# Altium footprint library RF Connector.PcbLib: 13 footprints
Each footprint in its own frame and in the unit in brackets; x right, y up, seen from the top. Pads: shape width x height; smd on the part's side, far side on the other; paste and mask are expansions set on the pad; w line width, h text height; cw(c..) or ccw(c..) is an arc to the next point about the centre after c.
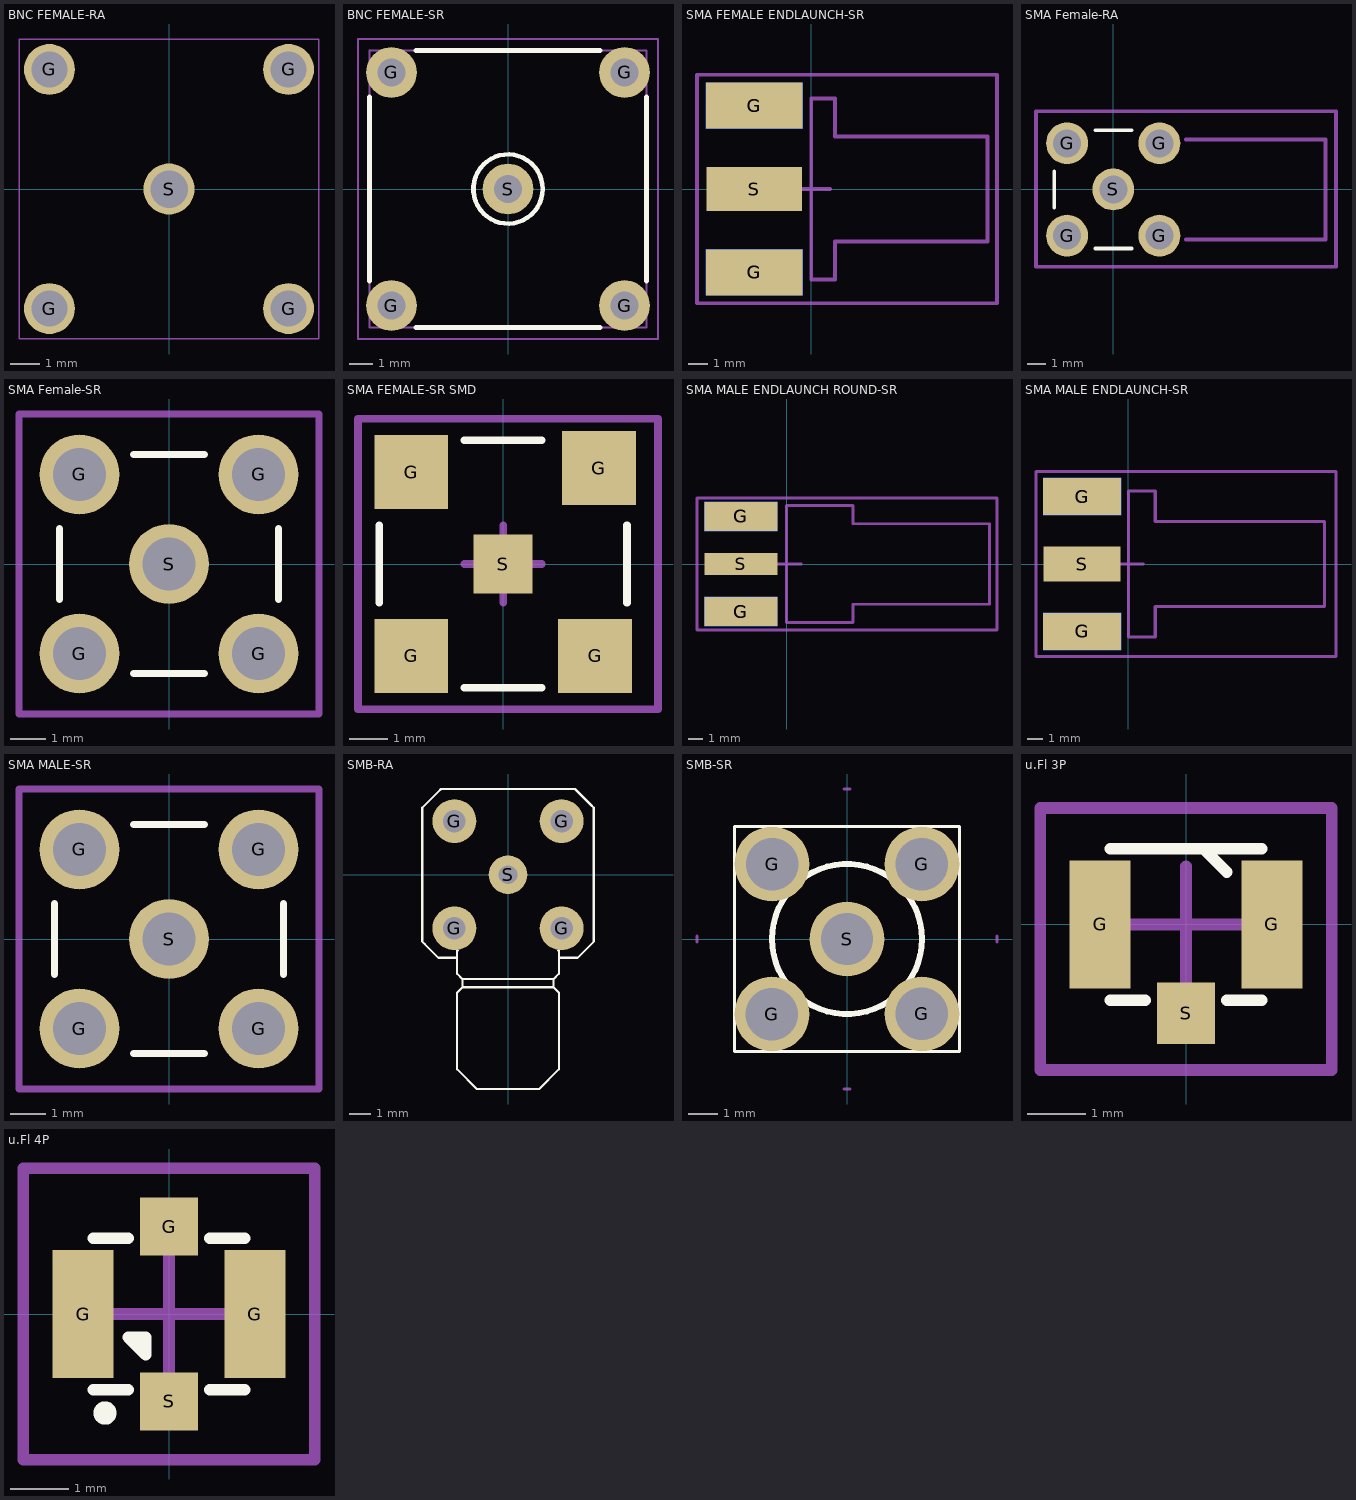
[diagram p0: the footprints below, top view; thin cyan lines are the x and y axes]

## BNC FEMALE-RA [mil]
pads (5):
  round 68 hole 48: G(-159.45,-159.45) G(-159.45,159.45) G(159.45,-159.45) G(159.45,159.45)
  round 68 hole 50: S(0,0)
Mechanical 14:
  lines w2: -200,-200 200,-200 200,200 -200,200 -200,-200
3D body "User Library-BNC84CT-9000.STEP": height 600.39, standoff -177.17, extent -216.53,-216.53 1043.31,216.54

## BNC FEMALE-SR [mm]
pads (5):
  round 2.2 hole 1.2: G(-5.05,-5.05) G(-5.05,5.05) G(5.05,-5.05) G(5.05,5.05) S(0,0)
Top Overlay:
  circle w0.2: c0,0 r1.5
  lines w0.2: -6,-4 -6,4 ; -4,-6 4,-6 ; -4,6 4,6 ; 6,-4 6,4
Mechanical 1:
  circle w0.1: c0,0 r1.5
  lines w0.1: -6,6 6,6 6,6 6,-6 -6,-6 -6,6 ; -6,6 -6,6
Mechanical 15:
  lines w0.1: -1,0 1,0 ; 0,-1 0,1 ; -6.5,-6.5 -6.5,6.5 6.5,6.5 6.5,-6.5 -6.5,-6.5
3D body "9962.stp": height 13, standoff -4.5, extent -6,-6 6,6

## SMA FEMALE ENDLAUNCH-SR [mm] "MOLEX SD-73251-115"
pads (5):
  rect 5.08x2.415 smd: G(-3,-4.383) G(-3,4.383)
  rect 5.08x2.415 smd far side: G(-3,-4.383) G(-3,4.383)
  rect 5x2.29 smd: S(-3,0)
Mechanical 1:
  lines w0.2: 0,-4.75 1.25,-4.75 1.25,-2.75 9.25,-2.75 9.25,2.75 1.25,2.75 1.25,4.75 0,4.75 0,-4.75
Mechanical 15:
  lines w0.2: -1,0 1,0 ; 0,-1 0,1 ; -6,-6 9.75,-6 9.75,6 -6,6 -6,-6
3D body "MOLEX SD-73251-115.stp": height 4.36, standoff -3.56, extent -5.137,-4.75 9.137,4.775

## SMA Female-RA [mm] "MOLEX SD-73100-0114"
pads (5):
  round 2.302 hole 1.54: G(-2.54,-2.54) G(2.54,-2.54)
  round 2.304 hole 1.54: G(-2.54,2.54) G(2.54,2.54) S(0,0)
Top Overlay:
  lines w0.2: -3.25,-1 -3.25,1 ; -1,-3.25 1,-3.25 ; -1,3.25 1,3.25
Mechanical 1:
  lines w0.2: 4,-2.75 11.675,-2.75 11.675,2.75 4,2.75
Mechanical 15:
  lines w0.2: -1,0 1,0 ; 0,-1 0,1 ; -4.25,-4.25 12.25,-4.25 12.25,4.3 -4.25,4.3 -4.25,-4.25
3D body "MOLEX SD-73100-0114.stp": height 9.67, standoff -3.83, extent -3.125,-3.175 11.675,3.175

## SMA Female-SR [mm] "MOLEX SD-73391-0060"
pads (5):
  round 2.262 hole 1.5: G(-2.54,-2.54) G(-2.54,2.54) G(2.54,-2.54) G(2.54,2.54) S(0,0)
Top Overlay:
  lines w0.2: -3.1,-1 -3.1,1 ; -1,-3.1 1,-3.1 ; -1,3.1 1,3.1 ; 3.1,-1 3.1,1
Mechanical 15:
  lines w0.2: -1,0 1,0 ; 0,-1 0,1 ; -4.25,-4.25 -4.25,4.25 4.25,4.25 4.25,-4.25 -4.25,-4.25
3D body "MOLEX SD-73391-0060.stp": height 9.6, standoff -3.9, extent -3.175,-3.173 3.175,3.175

## SMA FEMALE-SR SMD [mm] "MOLEX SD-73251-135 (Gold)"
pads (5):
  rect 1.91x1.91 smd: G(-2.375,-2.375) G(-2.375,2.375) G(2.375,-2.375) G(2.475,2.475)
  rect 1.52x1.52 smd: S(0,0)
Top Overlay:
  lines w0.2: -3.2,-1 -3.2,1 ; -1,-3.2 1,-3.2 ; -1,3.2 1,3.2 ; 3.2,-1 3.2,1
Mechanical 15:
  lines w0.2: -1,0 1,0 ; 0,-1 0,1 ; -3.75,-3.75 -3.75,3.75 4,3.75 4,-3.75 -3.75,-3.75
3D body "MOLEX SD-73251-135 Gold.stp": height 9.52, standoff -0.11, extent -3.175,-3.175 3.175,3.175

## SMA MALE ENDLAUNCH ROUND-SR [mm] "MOLEX SD-73251-068"
pads (5):
  rect 5x2 smd: G(-3.125,-3.25) G(-3.125,3.25)
  rect 5x2 smd far side: G(-3.125,-3.25) G(-3.125,3.25)
  rect 5x1.52 smd: S(-3.125,0)
Mechanical 1:
  lines w0.2: 0,-4 4.525,-4 4.525,-2.75 13.875,-2.75 13.875,2.75 4.525,2.75 4.525,4 0,4 0,-4
Mechanical 15:
  lines w0.2: -1,0 1,0 ; 0,-1 0,1 ; -6.125,-4.5 14.375,-4.5 14.375,4.5 -6.125,4.5 -6.125,-4.5
3D body "MOLEX SD-73251-068.stp": height 4.5, standoff -3.5, extent -5.455,-4 14.003,4

## SMA MALE ENDLAUNCH-SR [mm]
pads (5):
  rect 5.08x2.415 smd: G(-3,-4.383) G(-3,4.383)
  rect 5.08x2.415 smd far side: G(-3,-4.383) G(-3,4.383)
  rect 5x2.29 smd: S(-3,0)
Mechanical 1:
  lines w0.2: 0,-4.75 0,4.75 1.75,4.75 1.75,2.75 12.75,2.75 12.75,-2.75 1.75,-2.75 1.75,-4.75 0,-4.75
Mechanical 15:
  lines w0.2: -1,0 1,0 ; 0,-1 0,1 ; -6,-6 -6,6 13.5,6 13.5,-6 -6,-6
3D body "MOLEX SD-73251-104.stp": height 4.41, standoff -3.51, extent -4.75,-4.765 12.828,4.765

## SMA MALE-SR [mm] "MOLEX SD-73251-230"
pads (5):
  round 2.262 hole 1.5: G(-2.54,-2.54) G(-2.54,2.54) G(2.54,-2.54) G(2.54,2.54) S(0,0)
Top Overlay:
  lines w0.2: -3.25,-1 -3.25,1 ; -1,-3.25 1,-3.25 ; -1,3.25 1,3.25 ; 3.25,-1 3.25,1
Mechanical 15:
  lines w0.2: -1,0 1,0 ; 0,-1 0,1 ; -4.25,-4.25 4.25,-4.25 4.25,4.25 -4.25,4.25 -4.25,-4.25
3D body "MOLEX SD-73251-230.stp": height 9.86, standoff -3.84, extent -3.175,-3.175 3.175,3.175

## SMB-RA [mil]
pads (5):
  round 82 hole 42: G(-100,-100) G(-100,100) G(100,-100) G(100,100)
  round 72 hole 35: S(0,0)
Top Overlay:
  lines w4: -155,-130 -160,-125 ; -95,-155 -130,-155 -160,-125 ; -93.33,-141.67 -95,-140 -95,-185 -85,-195 ; 75,-383.33 58.33,-400 ; 93.33,-141.67 95,-140 95,-185 85,-195 ; 95,-155 130,-155 160,-125 160,80 ; 160,75 160,125 155,130 125,160 -125,160 -130,155 -160,125 -160,-125 ; -85,-210 85,-210 ; -85,-210 -95,-220 -95,-363.33 -58.33,-400 ; -85,-210 -85,-200 -85,-195 ; -85,-195 85,-195 ; -58.33,-400 -75,-383.33 -58.33,-400 ; -58.33,-400 58.33,-400 ; 58.33,-400 95,-363.33 95,-220 85,-210 ; 85,-210 85,-200 85,-195

## SMB-SR [mil]
pads (5):
  round 100 hole 70: G(-100,-100) G(-100,100) G(100,-100) G(100,100) S(0,0)
Top Overlay:
  circle w8: c0,0 r100
  circle w8: c0,0 r25
  lines w4: -150,-150 150,-150 150,150 -150,150 -150,-150
Mechanical 1:
  lines w4: -200,-4 -200,0 -200,4 ; -4,-200 0,-200 4,-200 ; -4,200 0,200 4,200 ; 200,-4 200,0 200,4

## u.Fl 3P [mm]
height 1.25
pads (3):
  rect 1.05x2.2 smd: G(-1.475,0) G(1.475,0)
  rect 1x1.05 smd: S(0,-1.525)
Top Overlay:
  lines w0.2: -1.3,-1.3 -0.7,-1.3 ; -1.3,1.3 1.3,1.3 ; 0.3,1.3 0.7,0.9 ; 0.7,-1.3 1.3,-1.3
Mechanical 15:
  lines w0.2: -1,0 1,0 ; 0,-1 0,1 ; -2.5,-2.5 -2.5,2 2.5,2 2.5,-2.5 -2.5,-2.5
3D body "TE 1909763-1.STEP": height 1.23, standoff 0, extent -1.5,-1.55 1.5,1.55

## u.Fl 4P [mm]
height 1.3
pads (4):
  rect 1.05x2.2 smd: G(-1.475,0) G(1.475,0)
  rect 1x1 smd: G(0,1.5) S(0,-1.5)
Top Overlay:
  circle w0.2: c-1.1,-1.7 r0.1
  lines w0.2: -1.3,-1.3 -0.7,-1.3 ; -1.3,1.3 -0.7,1.3 ; 0.7,-1.3 1.3,-1.3 ; 0.7,1.3 1.3,1.3 ; -0.7,-0.4 -0.4,-0.4 -0.4,-0.7 -0.7,-0.4
Mechanical 15:
  lines w0.2: -1,0 1,0 ; 0,-1 0,1 ; -2.5,-2.5 -2.5,2.5 2.5,2.5 2.5,-2.5 -2.5,-2.5
3D body "Molex 734120110.STEP": height 1.3, standoff 0, extent -1.5,-1.54 1.5,1.54